# Altium footprint library LED_SMD.PcbLib: 79 footprints (part 5 of 5)
Each footprint in its own frame and in the unit in brackets; x right, y up, seen from the top. Pads: shape width x height; smd on the part's side, far side on the other; paste and mask are expansions set on the pad; w line width, h text height; cw(c..) or ccw(c..) is an arc to the next point about the centre after c.
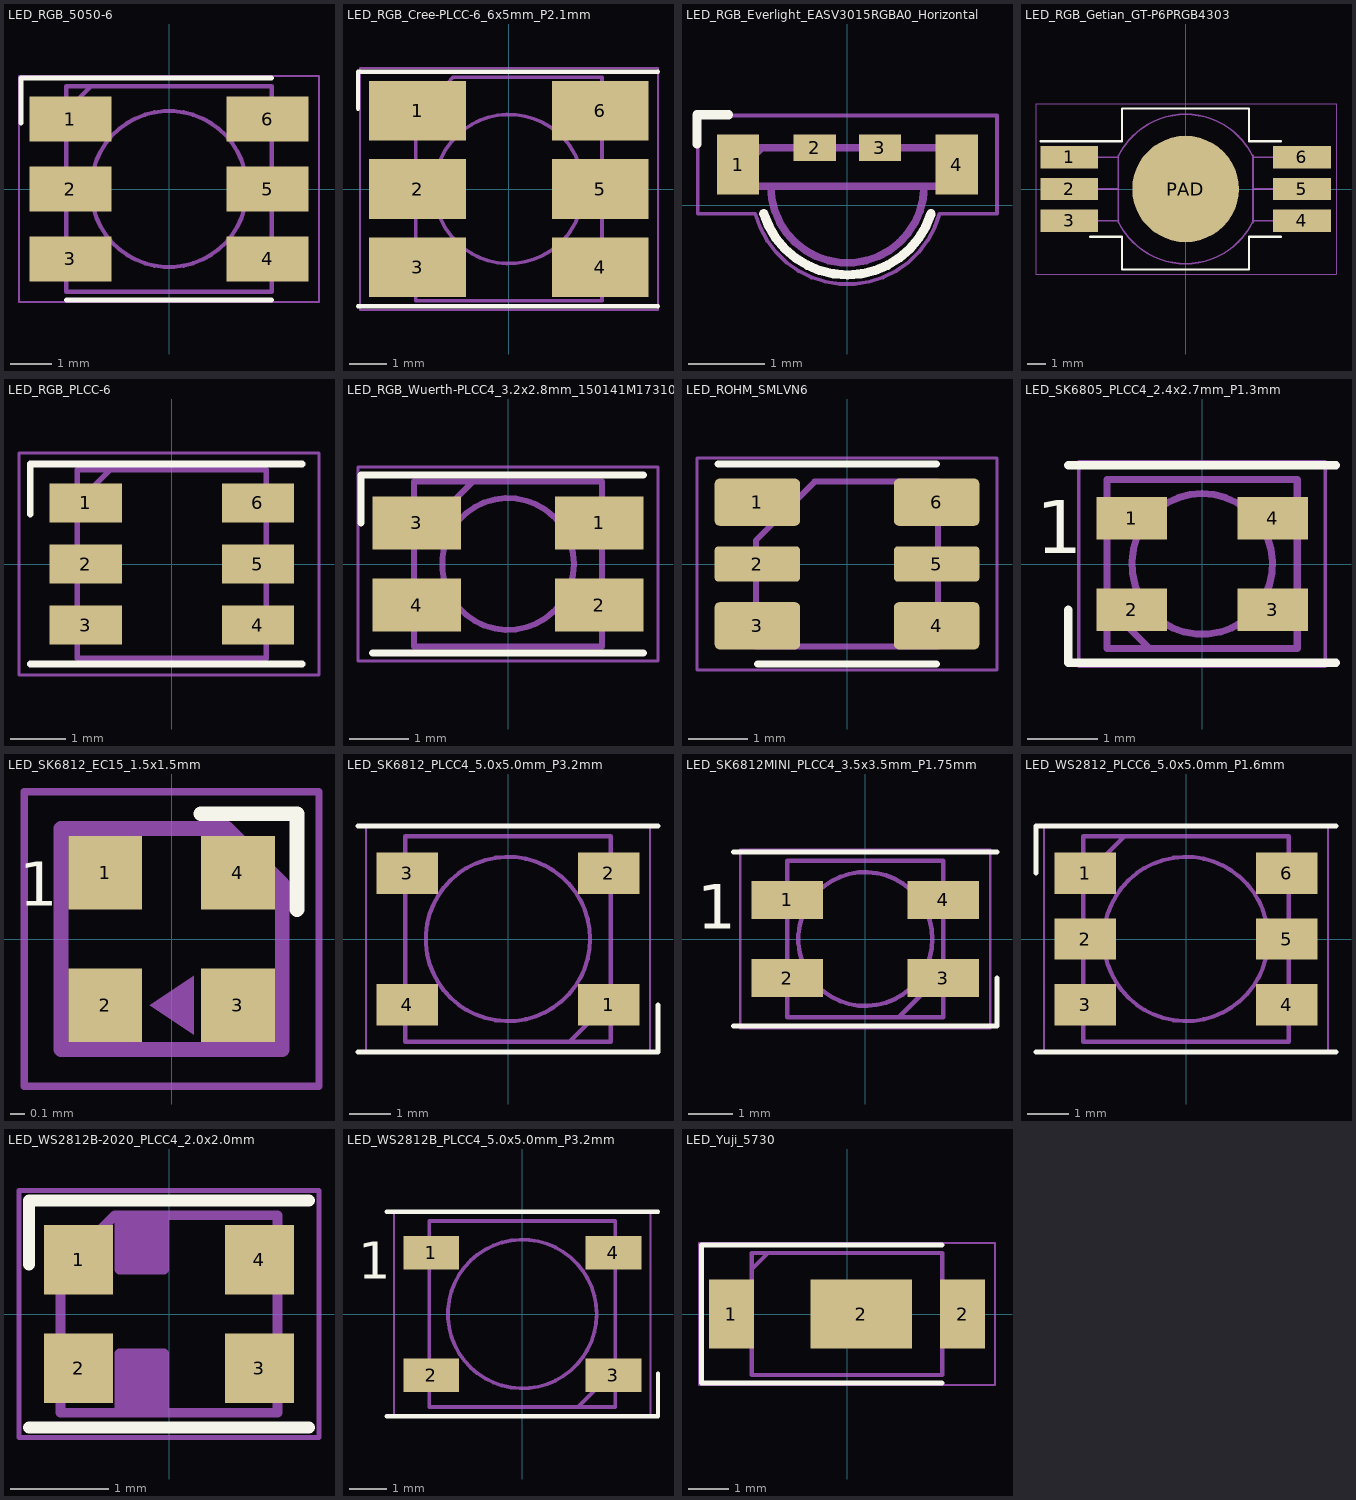
[diagram p4: the footprints below, top view; thin cyan lines are the x and y axes]

## LED_RGB_5050-6 [mm]
pads (6):
  rect 2x1.1 smd: 1(-2.4,1.7) 2(-2.4,0) 3(-2.4,-1.7) 4(2.4,-1.7) 5(2.4,0) 6(2.4,1.7)
F.SilkS:
  lines w0.12: -3.6,1.6 -3.6,2.7 2.5,2.7 ; -2.5,-2.7 2.5,-2.7
F.CrtYd:
  lines w0.05: -3.65,-2.75 -3.65,2.75 3.65,2.75 3.65,-2.75 -3.65,-2.75
F.Fab:
  circle w0.1: c0,0 r1.9
  lines w0.1: -2.5,1.9 -1.9,2.5 ; -2.5,-2.5 2.5,-2.5 2.5,2.5 -2.5,2.5 -2.5,-2.5
  text "'.Designator'" at -2.398,-0.474 h0.6
3D body "LED_RGB_5050-6.step": height 1.6, standoff 0, extent -2.7,-2.5 2.7,2.5

## LED_RGB_Cree-PLCC-6_6x5mm_P2.1mm [mm]
pads (6):
  rect 2.6x1.6 smd: 1(-2.45,2.1) 2(-2.45,0) 3(-2.45,-2.1) 4(2.45,-2.1) 5(2.45,0) 6(2.45,2.1)
F.SilkS:
  lines w0.12: -4.05,-3.15 4,-3.15 ; -4.05,2.15 -4.05,3.15 4,3.15
F.CrtYd:
  lines w0.05: -4,-3.25 4,-3.25 4,3.25 -4,3.25 -4,-3.25
F.Fab:
  circle w0.1: c0,0 r2
  lines w0.1: -2.5,-3 2.5,-3 2.5,3 -1.5,3 -2.5,1.9 -2.5,-3
  text "'.Designator'" at -3.947,-1.04 h1

## LED_RGB_Everlight_EASV3015RGBA0_Horizontal [mm]
pads (4):
  rect 0.55x0.78 smd: 1(-1.425,0.53) 4(1.425,0.53)
  rect 0.55x0.34 smd: 2(-0.425,0.75) 3(0.425,0.75)
F.SilkS:
  lines w0.12: -1.96,0.8 -1.96,1.18 -1.55,1.18 ; -1.09,-0.11 ccw(c0,0.237) 1.09,-0.11
F.CrtYd:
  lines w0.05: -1.95,-0.11 -1.2,-0.11 ccw(c0,0.213) 1.2,-0.11 1.95,-0.11 1.95,1.17 -1.95,1.17 -1.95,-0.11
F.Fab:
  lines w0.1: -1.5,0.36 -1.12,0.75 ; -1,0.25 ccw(c0,0.25) 1,0.25 ; -1.5,0.25 -1.5,0.75 1.5,0.75 1.5,0.25 -1.5,0.25
  text "'.Designator'" at -1.244,-0.282 h0.3

## LED_RGB_Getian_GT-P6PRGB4303 [mm]
pads (7):
  rect 3.1x1.2 smd: 1(-6.22,1.7) 2(-6.22,0) 3(-6.22,-1.7) 4(6.22,-1.7) 5(6.22,0) 6(6.22,1.7)
  round 5.7 smd: PAD(0,0)
F.SilkS:
  lines w0.12: -7.75,2.55 -3.4,2.55 -3.4,4.3 3.4,4.3 3.4,2.55 4.7,2.55 5.1,2.55 ; -5.1,-2.55 -3.4,-2.55 -3.4,-4.3 3.4,-4.3 3.4,-2.55 5.1,-2.55
F.CrtYd:
  lines w0.05: -8,-4.55 -8,4.55 8.05,4.55 8.05,-4.55 -8,-4.55
F.Fab:
  lines w0.1: -6.2,-1.7 -3.6,-1.7 ; -6.2,0 -3.6,0 ; -6.2,1.7 -3.6,1.7 ; -3.625,-1.69 ccw(c0,0) 0,-4 ccw(c0,0) 3.625,-1.69 ; -3.625,1.69 cw(c0,0) 0,4 cw(c0,0) 3.625,1.69 ; -3.6,-1.8 -3.6,1.8 ; 3.6,-1.8 3.6,1.8 ; 3.6,-1.7 6.3,-1.7 ; 3.6,0 6.3,0 ; 3.6,1.7 6.3,1.7

## LED_RGB_PLCC-6 [mm]
pads (6):
  rect 1.3x0.7 smd: 1(-1.55,1.1) 2(-1.55,0) 3(-1.55,-1.1) 4(1.55,-1.1) 5(1.55,0) 6(1.55,1.1)
F.SilkS:
  lines w0.12: -2.55,-1.8 2.35,-1.8 ; -2.55,0.9 -2.55,1.8 2.35,1.8
F.CrtYd:
  lines w0.05: -2.75,-2 -2.75,2 2.65,2 2.65,-2 -2.75,-2
F.Fab:
  lines w0.1: -1.7,1.1 -1.1,1.7 ; -1.7,-1.7 -1.7,1.7 1.7,1.7 1.7,-1.7 -1.7,-1.7

## LED_RGB_Wuerth-PLCC4_3.2x2.8mm_150141M173100 [mm]
pads (4):
  rect 1.5x0.9 smd: 1(1.55,0.7) 2(1.55,-0.7) 3(-1.55,0.7) 4(-1.55,-0.7)
F.SilkS:
  lines w0.12: -2.5,0.7 -2.5,1.51 2.3,1.51 ; -2.3,-1.51 2.3,-1.51
F.CrtYd:
  lines w0.05: -2.55,-1.65 -2.55,1.65 2.55,1.65 2.55,-1.65 -2.55,-1.65
F.Fab:
  circle w0.1: c0,0 r1.12
  lines w0.1: -1.6,0.4 -0.6,1.4 ; -1.6,-1.4 1.6,-1.4 1.6,1.4 -1.6,1.4 -1.6,-1.4
  text "'.Designator'" at -2.023,-0.42 h0.5

## LED_ROHM_SMLVN6 [mm]
pads (6):
  rrect20% 1.45x0.8 smd: 1(-1.525,1.05) 3(-1.525,-1.05) 4(1.525,-1.05) 6(1.525,1.05)
  rrect20% 1.45x0.6 smd: 2(-1.525,0) 5(1.525,0)
F.SilkS:
  lines w0.12: -2.19,1.7 1.525,1.7 ; -1.525,-1.7 1.525,-1.7
F.CrtYd:
  lines w0.05: -2.55,-1.8 2.55,-1.8 2.55,1.8 -2.55,1.8 -2.55,-1.8
F.Fab:
  lines w0.1: -1.55,-1.4 -1.55,0.4 -0.55,1.4 1.55,1.4 1.55,-1.4 -1.55,-1.4
  text "'.Designator'" at -2.828,-0.583 h0.7

## LED_SK6805_PLCC4_2.4x2.7mm_P1.3mm [mm]
pads (4):
  rect 1x0.6 smd: 1(-1,0.65) 2(-1,-0.65) 3(1,-0.65) 4(1,0.65)
F.SilkS:
  lines w0.12: -1.9,-0.65 -1.9,-1.4 1.9,-1.4 ; -1.9,1.4 1.9,1.4
  text "1" at -2.359,0.155 h0.75
F.CrtYd:
  lines w0.05: -1.75,-1.45 1.75,-1.45 1.75,1.45 -1.75,1.45 -1.75,-1.45
F.Fab:
  circle w0.1: c0,0 r1
  lines w0.1: -1.35,-0.6 -0.75,-1.2 ; -1.35,-1.2 -1.35,1.2 1.35,1.2 1.35,-1.2 -1.35,-1.2
  text "'.Designator'" at -1.639,-0.356 h0.4

## LED_SK6812_EC15_1.5x1.5mm [mm]
pads (4):
  rect 0.5x0.5 smd: 1(-0.45,0.45) 2(-0.45,-0.45) 3(0.45,-0.45) 4(0.45,0.45)
F.SilkS:
  lines w0.1: 0.2,0.85 0.85,0.85 0.85,0.2
  text "1" at -1.036,0.225 h0.3
F.CrtYd:
  lines w0.05: -1,-1 1,-1 1,1 -1,1 -1,-1
F.Fab:
  region: 0.15,-0.65 -0.15,-0.45 0.15,-0.25
  lines w0.1: -0.75,-0.75 0.75,-0.75 0.75,0.375 0.375,0.75 -0.75,0.75 -0.75,-0.75
  text "'.Designator'" at -1.194,-0.257 h0.3

## LED_SK6812_PLCC4_5.0x5.0mm_P3.2mm [mm]
pads (4):
  rect 1.5x1 smd: 1(2.45,-1.6) 2(2.45,1.6) 3(-2.45,1.6) 4(-2.45,-1.6)
F.SilkS:
  lines w0.12: -3.65,-2.75 3.65,-2.75 3.65,-1.6 ; -3.65,2.75 3.65,2.75
F.CrtYd:
  lines w0.05: -3.45,-2.75 3.45,-2.75 3.45,2.75 -3.45,2.75 -3.45,-2.75
F.Fab:
  circle w0.1: c0,0 r2
  lines w0.1: 1.5,-2.5 2.5,-1.5 ; -2.5,-2.5 2.5,-2.5 2.5,2.5 -2.5,2.5 -2.5,-2.5
  text "'.Designator'" at -3.267,-0.702 h0.8
3D body "LED_SK6812_PLCC4_5.0x5.0mm_P3.2mm.step": height 1.7, standoff 0, extent -2.7,-2.5 2.7,2.5

## LED_SK6812MINI_PLCC4_3.5x3.5mm_P1.75mm [mm]
pads (4):
  rect 1.6x0.85 smd: 1(-1.75,0.875) 2(-1.75,-0.875) 3(1.75,-0.875) 4(1.75,0.875)
F.SilkS:
  lines w0.12: -2.95,-1.95 2.95,-1.95 2.95,-0.875 ; -2.95,1.95 2.95,1.95
  text "1" at -3.769,0.225 h1
F.CrtYd:
  lines w0.05: -2.8,-2 -2.8,2 2.8,2 2.8,-2 -2.8,-2
F.Fab:
  circle w0.1: c0,0 r1.5
  lines w0.1: 0.75,-1.75 1.75,-0.75 ; -1.75,-1.75 1.75,-1.75 1.75,1.75 -1.75,1.75 -1.75,-1.75
  text "'.Designator'" at -2.048,-0.445 h0.5

## LED_WS2812_PLCC6_5.0x5.0mm_P1.6mm [mm]
pads (6):
  rect 1.5x1 smd: 1(-2.45,1.6) 2(-2.45,0) 3(-2.45,-1.6) 4(2.45,-1.6) 5(2.45,0) 6(2.45,1.6)
F.SilkS:
  lines w0.12: -3.65,-2.75 3.65,-2.75 ; -3.65,1.6 -3.65,2.75 3.65,2.75
F.CrtYd:
  lines w0.05: -3.45,-2.75 -3.45,2.75 3.45,2.75 3.45,-2.75 -3.45,-2.75
F.Fab:
  circle w0.1: c0,0 r2
  lines w0.1: -2.5,1.5 -1.5,2.5 ; -2.5,-2.5 -2.5,2.5 2.5,2.5 2.5,-2.5 -2.5,-2.5
  text "'.Designator'" at -3.267,-0.702 h0.8
3D body "LED_WS2812_PLCC6_5.0x5.0mm_P1.6mm.step": height 1.85, standoff 0, extent -2.7,-2.5 2.7,2.5

## LED_WS2812B-2020_PLCC4_2.0x2.0mm [mm]
pads (4):
  rect 0.7x0.7 smd: 1(-0.915,0.55) 2(-0.915,-0.55) 3(0.915,-0.55) 4(0.915,0.55)
F.SilkS:
  lines w0.12: -1.42,-1.15 1.42,-1.15 ; -1.42,0.5 -1.42,1.15 1.42,1.15
F.CrtYd:
  lines w0.05: -1.52,-1.25 -1.52,1.25 1.52,1.25 1.52,-1.25 -1.52,-1.25
F.Fab:
  region: -0.05,0.45 -0.5,0.45 -0.5,1 -0.05,1
  region: -0.05,-1 -0.5,-1 -0.5,-0.4 -0.05,-0.4
  lines w0.1: -1.1,-1 1.1,-1 1.1,1 -0.55,1 -1.1,0.45 -1.1,-1 ; -0.5,-1 -0.05,-1 -0.05,-0.4 -0.5,-0.4 -0.5,-1 ; -0.5,0.45 -0.05,0.45 -0.05,1 -0.5,1 -0.5,0.45
  text "'.Designator'" at -2.023,-0.42 h0.5

## LED_WS2812B_PLCC4_5.0x5.0mm_P3.2mm [mm]
pads (4):
  rect 1.5x0.9 smd: 1(-2.45,1.65) 2(-2.45,-1.65) 3(2.45,-1.65) 4(2.45,1.65)
F.SilkS:
  lines w0.12: -3.65,-2.75 3.65,-2.75 3.65,-1.6 ; -3.65,2.75 3.65,2.75
  text "1" at -4.419,0.95 h1
F.CrtYd:
  lines w0.05: -3.45,-2.75 -3.45,2.75 3.45,2.75 3.45,-2.75 -3.45,-2.75
F.Fab:
  circle w0.1: c0,0 r2
  lines w0.1: 1.5,-2.5 2.5,-1.5 ; -2.5,-2.5 2.5,-2.5 2.5,2.5 -2.5,2.5 -2.5,-2.5
  text "'.Designator'" at -3.267,-0.702 h0.8
3D body "LED_WS2812B_PLCC4_5.0x5.0mm_P3.2mm.step": height 1.6, standoff 0, extent -2.7,-2.5 2.7,2.5

## LED_Yuji_5730 [mm]
pads (3):
  rect 1.1x1.7 smd: 1(-2.85,0) 2(2.85,0)
  rect 2.5x1.7 smd: 2(0.35,0)
F.SilkS:
  lines w0.12: 2.35,-1.7 -3.59,-1.7 -3.59,1.7 2.35,1.7
F.CrtYd:
  lines w0.05: -3.65,-1.75 -3.65,1.75 3.65,1.75 3.65,-1.75 -3.65,-1.75
F.Fab:
  lines w0.1: -2.35,1.1 -1.95,1.5 ; -2.35,-1.5 2.35,-1.5 2.35,1.5 -2.35,1.5 -2.35,-1.5
  text "'.Designator'" at -3.197,-0.632 h0.8